# EAGLE library part 2G34 (library ic-TI)
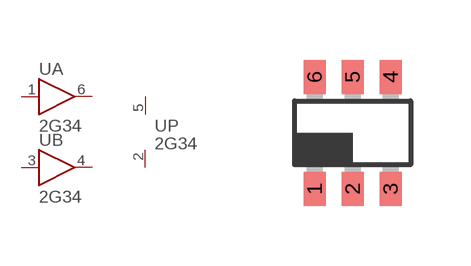
[diagram p13: symbol with the pads of SOT23-6; footprint SOT23-6]

Designator prefix U; gates A=LOGIC_BUFFER B=LOGIC_BUFFER P=LOGIC_PWR

## 2G34DBV  [SOT23-6]
1  A:A
2  P:GND
3  B:A
4  B:Y
5  P:VCC
6  A:Y

## Footprint SOT23-6 (pad centres in mm)
smd 0.55 x 0.85: 1 -0.95,-1.4; 2 0,-1.4; 3 0.95,-1.4; 4 0.95,1.4; 5 0,1.4; 6 -0.95,1.4